# EAGLE library part 74HC4051D,652 (library NXP_By_element14_Batch_1)
8-channel analog multiplexer/demultiplexer
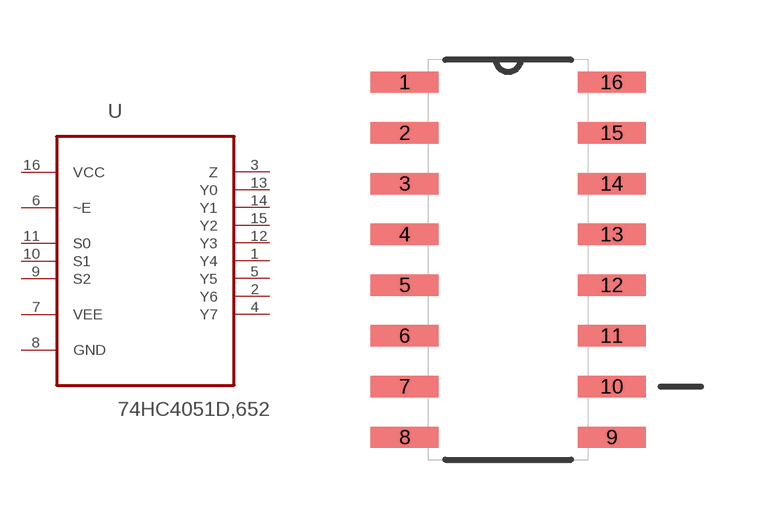
[diagram p99: symbol with the pads of SOIC127P600X175-16N; footprint SOIC127P600X175-16N]

Designator prefix U

## 74HC4051D,652 (MPN: 74HC4051D,652; OC_FARNELL: 1826792; OC_NEWARK: 71R2504; P1I: o; PACKAGE: SOIC-16; SUPPLIER: NXP)  [SOIC127P600X175-16N]
1  Y4
2  Y6
3  Z
4  Y7
5  Y5
6  ~E  in
7  VEE  pwr
8  GND  pas
9  S2  in
10  S1  in
11  S0  in
12  Y3
13  Y0
14  Y1
15  Y2
16  VCC  pwr

## Footprint SOIC127P600X175-16N (pad centres in mm)
smd 1.702 x 0.533: 1 -2.591,4.445; 2 -2.591,3.175; 3 -2.591,1.905; 4 -2.591,0.635; 5 -2.591,-0.635; 6 -2.591,-1.905; 7 -2.591,-3.175; 8 -2.591,-4.445; 9 2.591,-4.445; 10 2.591,-3.175; 11 2.591,-1.905; 12 2.591,-0.635; 13 2.591,0.635; 14 2.591,1.905; 15 2.591,3.175; 16 2.591,4.445